# EAGLE library part 74ALS1002AD (library EW_IC_74_Logic)
2-Inp. Nor. Category: Gates Manufacturer: Generic
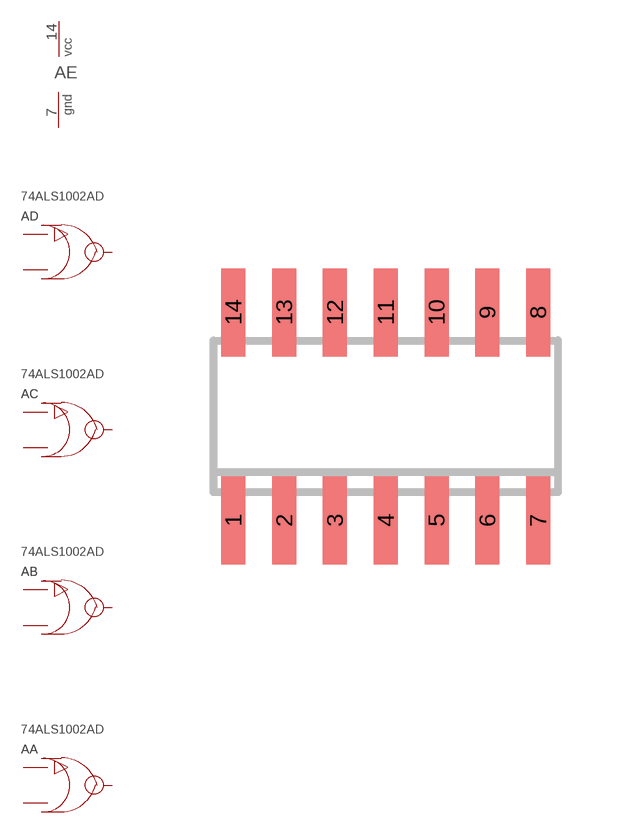
[diagram p57: symbol with the pads of SO14; footprint SO14]

Designator prefix A; gates A=NOR_2_BUFF B=NOR_2_BUFF C=NOR_2_BUFF D=NOR_2_BUFF E=PWRN

## 74ALS1002AD  [SO14]
1  A:Y  pwr
2  A:A  pwr
3  A:B  pwr
4  B:Y  pwr
5  B:A  pwr
6  B:B  pwr
7  E:GND  pwr
8  C:A  pwr
9  C:B  pwr
10  C:Y  pwr
11  D:A  pwr
12  D:B  pwr
13  D:Y  pwr
14  E:VCC  pwr

## Footprint SO14 (pad centres in mm)
SMALL OUTLINE INTEGRATED CIRCUIT body 3.9 mm/JEDEC MS-012AC
smd 0.6 x 2.2: 1 -3.81,-2.6; 2 -2.54,-2.6; 3 -1.27,-2.6; 4 0,-2.6; 5 1.27,-2.6; 6 2.54,-2.6; 7 3.81,-2.6; 8 3.81,2.6; 9 2.54,2.6; 10 1.27,2.6; 11 0,2.6; 12 -1.27,2.6; 13 -2.54,2.6; 14 -3.81,2.6